# EAGLE library part PIC18F4*_TQFP (library microchip)
USB Microcontrollers with nanoWatt Technology High-Performance, Enhanced Flash, 28/40/44-Pin, Source: http://ww1.microchip.com/downloads/en/devicedoc/39632c.pdf
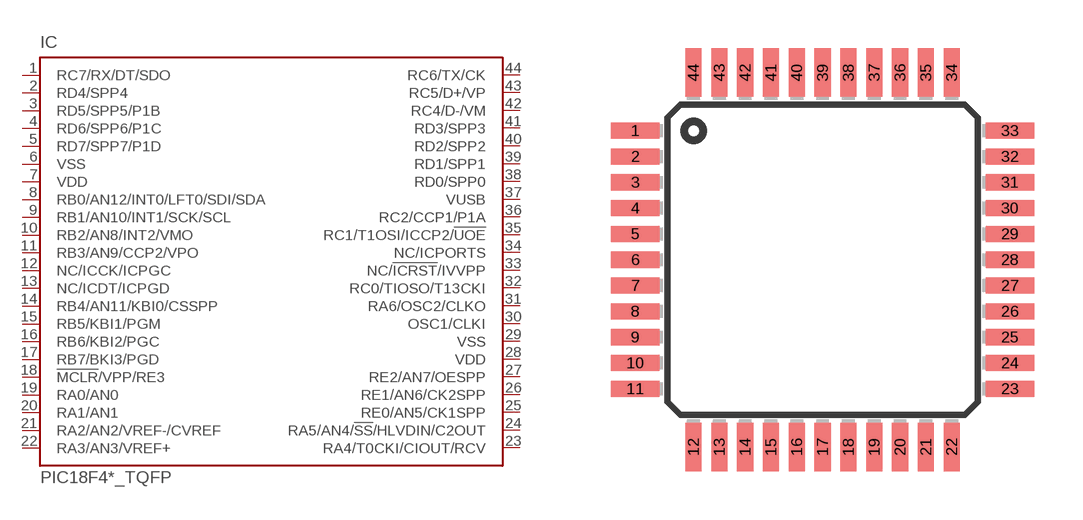
[diagram p63: symbol with the pads of TQFP44; footprint TQFP44]

Designator prefix IC

## PIC18F4455_TQFP (MF: MICROCHIP; MPN: PIC18F4455-I/PT; OC_FARNELL: 9321322; OC_NEWARK: 08J9628), PIC18F4550_TQFP (MF: MICROCHIP; MPN: PIC18F4550-I/PT; OC_FARNELL: 9321365; OC_NEWARK: 08J9633)  [TQFP44]
1  RC7/RX/DT/SDO
2  RD4/SPP4
3  RD5/SPP5/P1B
4  RD6/SPP6/P1C
5  RD7/SPP7/P1D
6  VSS  pwr
7  VDD  pwr
8  RB0/AN12/INT0/LFT0/SDI/SDA
9  RB1/AN10/INT1/SCK/SCL
10  RB2/AN8/INT2/VMO
11  RB3/AN9/CCP2/VPO
12  NC/ICCK/ICPGC
13  NC/ICDT/ICPGD
14  RB4/AN11/KBI0/CSSPP
15  RB5/KBI1/PGM
16  RB6/KBI2/PGC
17  RB7/BKI3/PGD
18  !MCLR!/VPP/RE3  in
19  RA0/AN0
20  RA1/AN1
21  RA2/AN2/VREF-/CVREF
22  RA3/AN3/VREF+
23  RA4/T0CKI/CIOUT/RCV
24  RA5/AN4/!SS!/HLVDIN/C2OUT
25  RE0/AN5/CK1SPP
26  RE1/AN6/CK2SPP
27  RE2/AN7/OESPP
28  VDD  pwr
29  VSS  pwr
30  OSC1/CLKI  in
31  RA6/OSC2/CLKO  out
32  RC0/TIOSO/T13CKI
33  NC/!ICRST!/IVVPP  in
34  NC/ICPORTS  in
35  RC1/T1OSI/ICCP2/!UOE
36  RC2/CCP1/P1A
37  VUSB
38  RD0/SPP0
39  RD1/SPP1
40  RD2/SPP2
41  RD3/SPP3
42  RC4/D-/VM
43  RC5/D+/VP
44  RC6/TX/CK

## Footprint TQFP44 (pad centres in mm)
Thin Quad Flat Pack package type TQ
smd 1.5 x 0.5: 1 -5.8,4; 2 -5.8,3.2; 3 -5.8,2.4; 4 -5.8,1.6; 5 -5.8,0.8; 6 -5.8,0; 7 -5.8,-0.8; 8 -5.8,-1.6; 9 -5.8,-2.4; 10 -5.8,-3.2; 11 -5.8,-4; 23 5.8,-4; 24 5.8,-3.2; 25 5.8,-2.4; 26 5.8,-1.6; 27 5.8,-0.8; 28 5.8,0; 29 5.8,0.8; 30 5.8,1.6; 31 5.8,2.4; 32 5.8,3.2; 33 5.8,4
smd 0.5 x 1.5: 12 -4,-5.8; 13 -3.2,-5.8; 14 -2.4,-5.8; 15 -1.6,-5.8; 16 -0.8,-5.8; 17 0,-5.8; 18 0.8,-5.8; 19 1.6,-5.8; 20 2.4,-5.8; 21 3.2,-5.8; 22 4,-5.8; 34 4,5.8; 35 3.2,5.8; 36 2.4,5.8; 37 1.6,5.8; 38 0.8,5.8; 39 0,5.8; 40 -0.8,5.8; 41 -1.6,5.8; 42 -2.4,5.8; 43 -3.2,5.8; 44 -4,5.8